# Altium footprint library RS_Library_Pcb.PcbLib: 10 footprints
Each footprint in its own frame and in the unit in brackets; x right, y up, seen from the top. Pads: shape width x height; smd on the part's side, far side on the other; paste and mask are expansions set on the pad; w line width, h text height; cw(c..) or ccw(c..) is an arc to the next point about the centre after c.
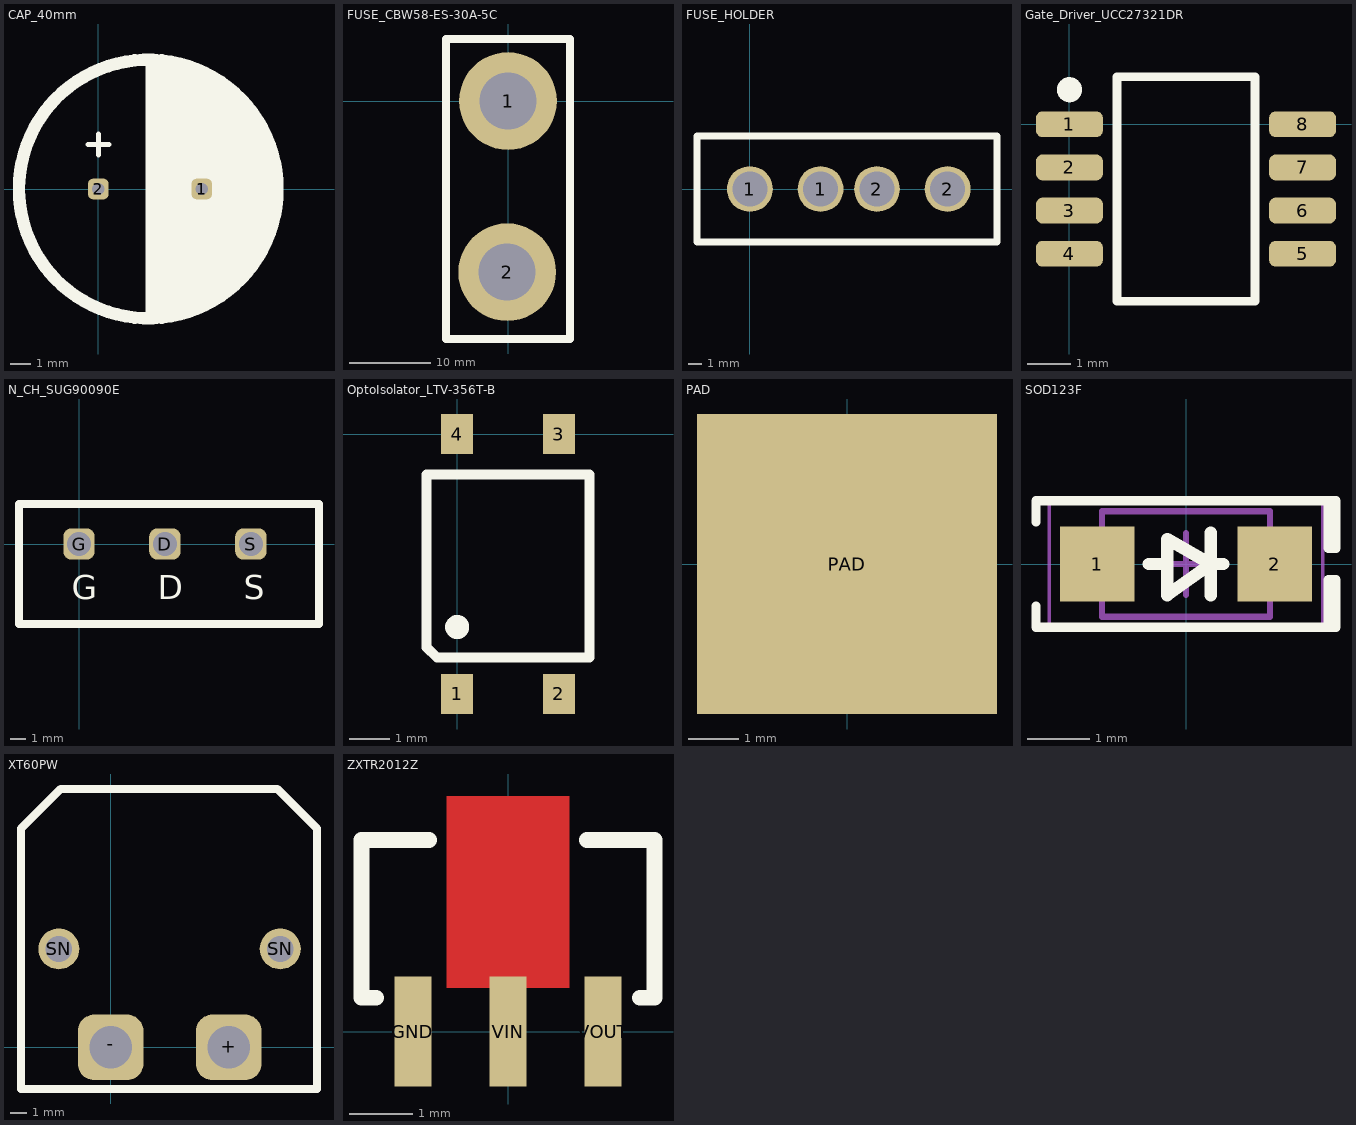
[diagram p0: the footprints below, top view; thin cyan lines are the x and y axes]

## CAP_40mm [mm]
pads (2):
  rrect50% 1x1 hole 0.6: 1(5,0) 2(0,0)
Top Overlay:
  circle w0.6: c2.413,0 r6.25
  rectangle: 2.413,-4.699 6.731,-0.889
  rectangle: 2.413,0.889 6.731,4.318
  rectangle: 5.969,-3.429 7.62,3.429
  region: 10.668,-5.08
  pour cut-out: 4.064,0.889 5.969,0.889 5.969,-0.889 4.064,-0.889
  lines w0.25: -0.508,2.159 0.508,2.159 0,2.159 0,1.651 0,2.667 ; 2.413,-6.223 2.413,6.223 ; 3.429,-1.27 6.477,-1.27 4.445,-3.302
  lines w0.5: 2.667,-5.969 2.667,6.096 ; 3.048,-5.969 3.048,5.969 ; 3.429,-5.969 3.429,5.969 ; 3.81,-4.826 6.096,-4.826 ; 3.81,4.953 6.096,4.953 6.096,-5.08 ; 3.861,-5.842 3.861,5.842 ; 4.064,5.842 4.318,5.588 4.318,5.334 4.064,5.08 4.064,4.699 4.318,4.445 4.318,1.143 4.572,1.397 5.842,1.397 6.096,1.143 3.556,1.143 3.048,0.635 3.048,-0.508 3.683,-1.143 6.096,-1.143 6.223,-1.27 6.096,-1.27 5.969,-1.397 5.969,-1.524 6.35,-1.905 6.35,-2.743 5.842,-3.251 5.842,-3.429 4.064,-5.207 4.064,-5.461 4.191,-5.588 4.191,-5.715 4.445,-5.461 4.445,-3.302 ; 6.35,-4.572 6.35,4.572 ; 6.731,-4.318 6.731,4.318 ; 7.112,-3.81 7.112,3.81 ; 7.493,-3.302 7.493,3.175 ; 7.874,-2.667 7.874,2.667 ; 8.255,-1.651 8.255,1.778
  lines w2: 4.953,-4.826 4.953,-1.905 ; 4.953,1.905 4.953,4.699

## FUSE_CBW58-ES-30A-5C [mm]
pads (2):
  round 12 hole 7: 1(0,0) 2(-0.1,-21)
Top Overlay:
  lines w1: -7.62,-29.21 7.62,-29.21 7.62,7.62 -7.62,7.62 -7.62,-29.21

## FUSE_HOLDER [mil]
pads (4):
  round 130 hole 98.43: 1(0,0) 1(200,0) 2(360,0) 2(560,0)
Top Overlay:
  lines w19.68: -150,-150 700,-150 700,150 -150,150 -150,-150

## Gate_Driver_UCC27321DR [mm]
pads (8):
  rrect50% 1.55x0.6 smd: 1(0,0) 2(0,-1) 3(0,-2) 4(0,-3) 5(5.4,-3) 6(5.4,-2) 7(5.4,-1) 8(5.4,0)
Top Overlay:
  circle w0.3: c0,0.8 r0.141
  lines w0.203: 1.1,-4.1 1.1,1.1 4.3,1.1 4.3,-4.1 1.1,-4.1

## N_CH_SUG90090E [mm]
pads (3):
  rrect50% 2x2 hole 1.5: D(5.46,0) G(0,0) S(10.92,0)
Top Overlay:
  lines w0.5: -3.81,-5.08 15.24,-5.08 15.24,2.54 -3.81,2.54 -3.81,-5.08
  text "G" at -0.462,-3.51 h1.52
  text "D" at 4.998,-3.51 h1.52
  text "S" at 10.458,-3.51 h1.52

## OptoIsolator_LTV-356T-B [mm]
pads (4):
  rect 0.8x1 smd: 1(0,-6.5) 2(2.54,-6.5) 3(2.54,0) 4(0,0)
Top Overlay:
  circle w0.4: c0,-4.826 r0.1
  lines w0.25: -0.762,-5.334 -0.762,-1.016 3.302,-1.016 3.302,-5.588 -0.508,-5.588 -0.762,-5.334

## PAD [mm]
pads (1):
  rect 6x6 smd: PAD(0,0)

## SOD123F [mm] "SODFL, 2-Leads, Body 1.60x3.50mm, IPC Medium Density"
height 1
pads (2):
  rect 1.2x1.2 smd: 1(-1.43,0) 2(1.43,0)
Top Overlay:
  lines w0.15: -2.413,-0.675 -2.413,-1.016 2.286,-1.016 ; -2.413,0.675 -2.413,1.016 2.286,1.016 ; 2.286,-1.016 2.413,-1.016 2.413,-0.254 2.286,-0.254 2.286,-1.016 ; 2.286,1.016 2.286,0.254 2.413,0.254 2.413,1.016 2.286,1.016
  lines w0.2: -0.6,0 -0.3,0 ; 0.4,-0.5 0.4,0.5 ; 0.6,0 0.4,0 ; 0.4,0 -0.3,0.4 -0.3,-0.5 0.4,0
Mechanical 13:
  lines w0.1: -1.35,-0.85 -1.35,0.85 1.35,0.85 1.35,-0.85 -1.35,-0.85
Mechanical 15:
  lines w0.05: -2.2,-1 -2.2,1 2.2,1 2.2,-1 -2.2,-1
  lines w0.1: -0.5,0 0.5,0 ; 0,-0.5 0,0.5
3D body "SOD123F.STEP": height 1.1, standoff 0, extent -1.75,-0.8 1.75,0.8

## XT60PW [mm]
pads (4):
  rrect50% 4x4 hole 2.6: +(7.2,0) -(0,0)
  round 2.5 hole 1.6: SN(-3.162,6) SN(10.338,6)
Top Overlay:
  lines w0.5: -5.461,-2.54 12.573,-2.54 12.573,13.335 10.16,15.748 -3.048,15.748 -5.461,13.335 -5.461,-2.54

## ZXTR2012Z [mm]
pads (3):
  rect 0.58x1.73 smd: GND(-1.5,0) VIN(0,0) VOUT(1.5,0)
Top Layer:
  region: 0.967,0.685 0.967,3.715 -0.967,3.715 -0.967,0.685
Top Overlay:
  lines w0.25: -2.083,0.533 -2.311,0.533 -2.311,3.023 -1.245,3.023 ; 1.245,3.023 2.311,3.023 2.311,0.533 2.083,0.533
Top Solder:
  rectangle: -1.041,0.61 1.041,3.785